# Altium footprint library Texas_Instruments.PcbLib: 1 footprints
Each footprint in its own frame and in the unit in brackets; x right, y up, seen from the top. Pads: shape width x height; smd on the part's side, far side on the other; paste and mask are expansions set on the pad; w line width, h text height; cw(c..) or ccw(c..) is an arc to the next point about the centre after c.
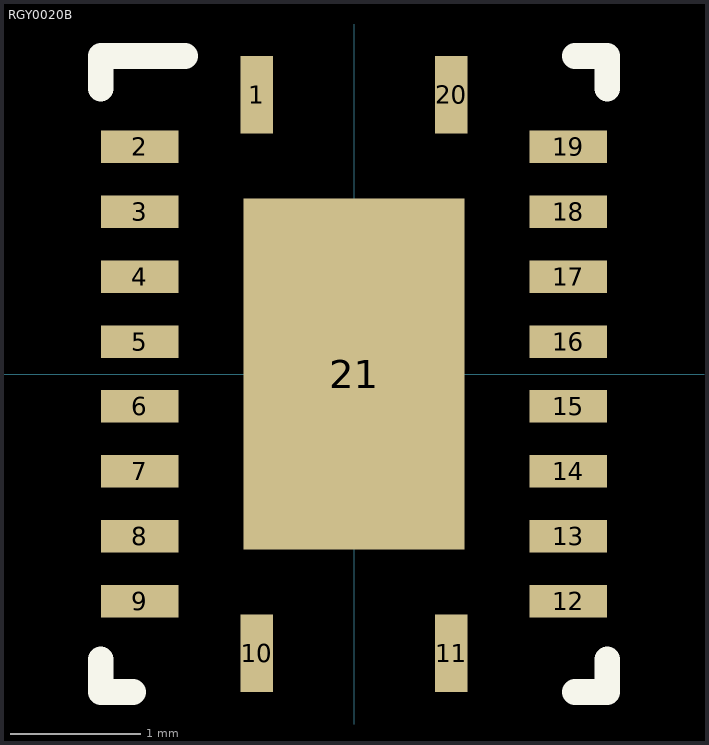
[diagram p0: the footprint, top view; thin cyan lines are the x and y axes]

## RGY0020B [mm]
pads (21):
  rect 0.25x0.6 smd paste+0 mask+0.051: 1(-0.75,2.15) 10(-0.75,-2.15) 11(0.75,-2.15) 20(0.75,2.15)
  rect 0.6x0.25 smd paste+0 mask+0.051: 2(-1.65,1.75) 3(-1.65,1.25) 4(-1.65,0.75) 5(-1.65,0.25) 6(-1.65,-0.25) 7(-1.65,-0.75) 8(-1.65,-1.25) 9(-1.65,-1.75) 12(1.65,-1.75) 13(1.65,-1.25) 14(1.65,-0.75) 15(1.65,-0.25) 16(1.65,0.25) 17(1.65,0.75) 18(1.65,1.25) 19(1.65,1.75)
  rect 1.7x2.7 smd paste-1.337 mask+0.051: 21(0,0)
Top Overlay:
  lines w0.2: -1.95,-2.2 -1.95,-2.45 -1.7,-2.45 ; -1.95,2.2 -1.95,2.45 -1.3,2.45 ; 1.7,-2.45 1.95,-2.45 1.95,-2.2 ; 1.7,2.45 1.95,2.45 1.95,2.2
Top Paste:
  region: 0.774,-1.288 0.774,-0.1 -0.774,-0.1 -0.774,-1.288
  region: 0.774,0.1 0.774,1.288 -0.774,1.288 -0.774,0.1